# Altium footprint library Misc.SMD.PcbLib: 88 footprints (part 2 of 6)
Each footprint in its own frame and in the unit in brackets; x right, y up, seen from the top. Pads: shape width x height; smd on the part's side, far side on the other; paste and mask are expansions set on the pad; w line width, h text height; cw(c..) or ccw(c..) is an arc to the next point about the centre after c.
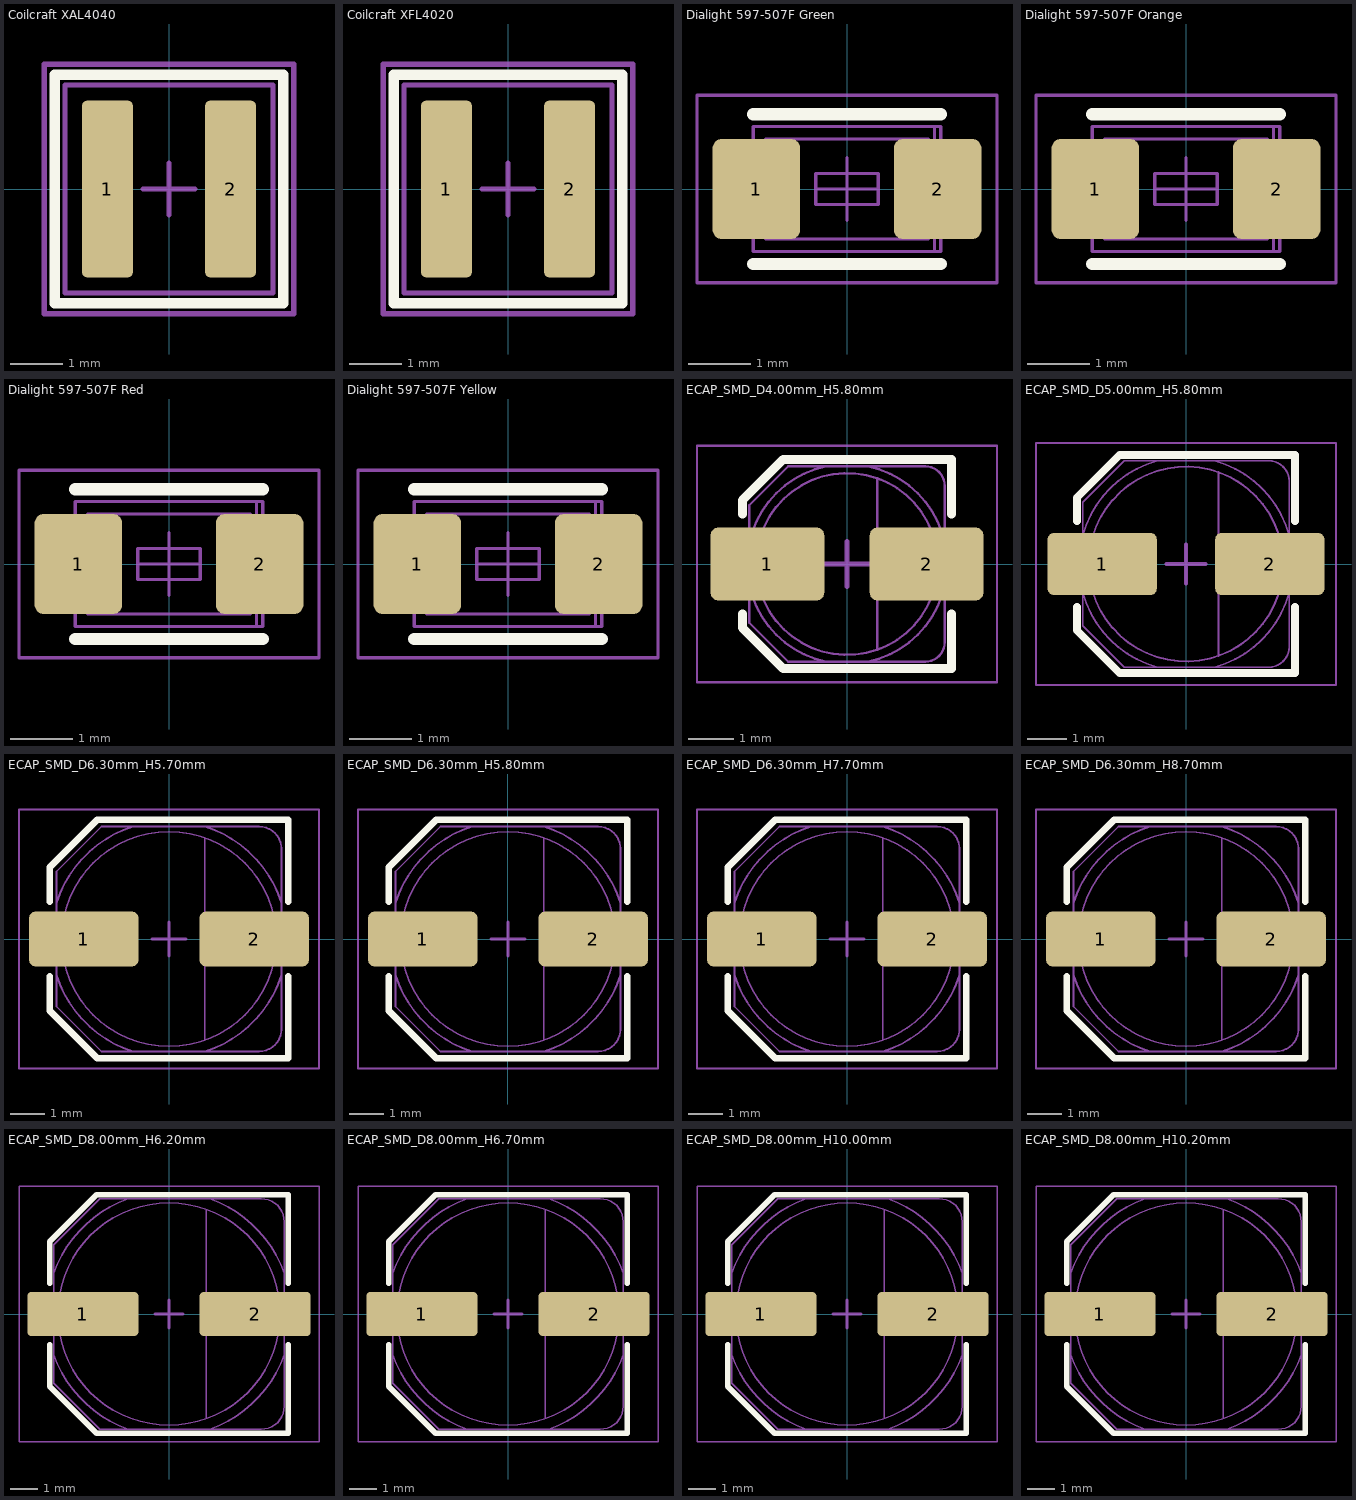
[diagram p1: the footprints below, top view; thin cyan lines are the x and y axes]

## Coilcraft XAL4040 [mm]
pads (2):
  rrect20% 0.98x3.4 smd: 1(-1.185,0) 2(1.185,0)
Top Overlay:
  lines w0.2: -2.2,-2.2 -2.2,2.2 2.2,2.2 2.2,-2.2 -2.2,-2.2
Mechanical 1:
  lines w0.1: -2,-2 -2,2 2,2 2,-2 -2,-2
Mechanical 15:
  lines w0.1: -0.5,0 0.5,0 ; 0,-0.5 0,0.5 ; -2.4,-2.4 -2.4,2.4 2.4,2.4 2.4,-2.4 -2.4,-2.4
3D body "L_Coilcraft_XAL4040.STEP": height 4.1, standoff 0, extent -2,-2 2,2

## Coilcraft XFL4020 [mm]
pads (2):
  rrect20% 0.98x3.4 smd: 1(-1.185,0) 2(1.185,0)
Top Overlay:
  lines w0.2: -2.2,-2.2 -2.2,2.2 2.2,2.2 2.2,-2.2 -2.2,-2.2
Mechanical 1:
  lines w0.1: -2,-2 -2,2 2,2 2,-2 -2,-2
Mechanical 15:
  lines w0.1: -0.5,0 0.5,0 ; 0,-0.5 0,0.5 ; -2.4,-2.4 -2.4,2.4 2.4,2.4 2.4,-2.4 -2.4,-2.4
3D body "L_Coilcraft_XFL4020.STEP": height 2.1, standoff 0, extent -2,-2 2,2

## Dialight 597-507F Green [mm] "Dialight 597-507F Series LED, 3.00x2.00mm"
height 1.3
pads (2):
  rrect20% 1.4x1.6 smd: 1(-1.45,0) 2(1.45,0)
Top Overlay:
  lines w0.2: -1.5,-1.2 1.5,-1.2 ; -1.5,1.2 1.5,1.2
Mechanical 1:
  lines w0.05: 1.4,-1 1.4,1 ; -1.5,-1 1.5,-1 1.5,1 -1.5,1 -1.5,-1 ; -1.3,-0.8 -1.3,0.8 1.3,0.8 1.3,-0.8 -1.3,-0.8 ; -0.5,-0.25 0.5,-0.25 0.5,0.25 -0.5,0.25 -0.5,-0.25
Mechanical 15:
  lines w0.05: -0.5,0 0.5,0 ; 0,-0.5 0,0.5 ; -2.4,-1.5 -2.4,1.5 2.4,1.5 2.4,-1.5 -2.4,-1.5
3D body "Dialight_597-507F_Green.STEP": height 1.3, standoff 0, extent -1.5,-1 1.5,1

## Dialight 597-507F Orange [mm] "Dialight 597-507F Series LED, 3.00x2.00mm"
height 1.3
pads (2):
  rrect20% 1.4x1.6 smd: 1(-1.45,0) 2(1.45,0)
Top Overlay:
  lines w0.2: -1.5,-1.2 1.5,-1.2 ; -1.5,1.2 1.5,1.2
Mechanical 1:
  lines w0.05: 1.4,-1 1.4,1 ; -1.5,-1 1.5,-1 1.5,1 -1.5,1 -1.5,-1 ; -1.3,-0.8 -1.3,0.8 1.3,0.8 1.3,-0.8 -1.3,-0.8 ; -0.5,-0.25 0.5,-0.25 0.5,0.25 -0.5,0.25 -0.5,-0.25
Mechanical 15:
  lines w0.05: -0.5,0 0.5,0 ; 0,-0.5 0,0.5 ; -2.4,-1.5 -2.4,1.5 2.4,1.5 2.4,-1.5 -2.4,-1.5
3D body "Dialight_597-507F_Orange.STEP": height 1.3, standoff 0, extent -1.5,-1 1.5,1

## Dialight 597-507F Red [mm] "Dialight 597-507F Series LED, 3.00x2.00mm"
height 1.3
pads (2):
  rrect20% 1.4x1.6 smd: 1(-1.45,0) 2(1.45,0)
Top Overlay:
  lines w0.2: -1.5,-1.2 1.5,-1.2 ; -1.5,1.2 1.5,1.2
Mechanical 1:
  lines w0.05: 1.4,-1 1.4,1 ; -1.5,-1 -1.5,1 1.5,1 1.5,-1 -1.5,-1 ; -1.3,-0.8 1.3,-0.8 1.3,0.8 -1.3,0.8 -1.3,-0.8 ; -0.5,-0.25 -0.5,0.25 0.5,0.25 0.5,-0.25 -0.5,-0.25
Mechanical 15:
  lines w0.05: -0.5,0 0.5,0 ; 0,-0.5 0,0.5 ; -2.4,-1.5 2.4,-1.5 2.4,1.5 -2.4,1.5 -2.4,-1.5
3D body "Dialight_597-507F_Red.STEP": height 1.3, standoff 0, extent -1.5,-1 1.5,1

## Dialight 597-507F Yellow [mm] "Dialight 597-507F Series LED, 3.00x2.00mm"
height 1.3
pads (2):
  rrect20% 1.4x1.6 smd: 1(-1.45,0) 2(1.45,0)
Top Overlay:
  lines w0.2: -1.5,-1.2 1.5,-1.2 ; -1.5,1.2 1.5,1.2
Mechanical 1:
  lines w0.05: 1.4,-1 1.4,1 ; -1.5,-1 -1.5,1 1.5,1 1.5,-1 -1.5,-1 ; -1.3,-0.8 1.3,-0.8 1.3,0.8 -1.3,0.8 -1.3,-0.8 ; -0.5,-0.25 -0.5,0.25 0.5,0.25 0.5,-0.25 -0.5,-0.25
Mechanical 15:
  lines w0.05: -0.5,0 0.5,0 ; 0,-0.5 0,0.5 ; -2.4,-1.5 2.4,-1.5 2.4,1.5 -2.4,1.5 -2.4,-1.5
3D body "Dialight_597-507F_Yellow.STEP": height 1.3, standoff 0, extent -1.5,-1 1.5,1

## ECAP_SMD_D4.00mm_H5.80mm [mm] "SMD Electrolytic Capacitor, 4.00mm Diameter, 5.80mm Height"
height 5.8
pads (2):
  rrect20% 2.5x1.6 smd: 1(-1.75,0) 2(1.75,0)
Top Overlay:
  lines w0.2: -2.3,-1.1 -2.3,-1.4 -1.4,-2.3 2.3,-2.3 2.3,-1.1 ; -2.3,1.1 -2.3,1.4 -1.4,2.3 2.3,2.3 2.3,1.1
Mechanical 1:
  circle w0.05: c0,0 r2
  lines w0.05: -2.15,-0.466 ccw(c0,0) -0.466,-2.15 ; -2.15,-0.325 -2.3,-0.325 -2.3,0.325 -2.15,0.325 ; -2.15,0.466 cw(c0,0) -0.466,2.15 ; 0.466,-2.15 ccw(c0,0) 2.15,-0.466 ; 0.466,2.15 cw(c0,0) 2.15,0.466 ; 0.667,-1.886 0.667,-1.672 0.667,1.672 0.667,1.886 ; 2.15,-0.325 2.3,-0.325 2.3,0.325 2.15,0.325 ; -2.15,-1.29 -1.29,-2.15 1.72,-2.15 ccw(c1.72,-1.72) 2.15,-1.72 2.15,1.72 ccw(c1.72,1.72) 1.72,2.15 -1.29,2.15 -2.15,1.29 -2.15,-1.29
Mechanical 15:
  lines w0.05: -3.3,-2.6 -3.3,2.6 3.3,2.6 3.3,-2.6 -3.3,-2.6
  lines w0.1: -0.5,0 0.5,0 ; 0,-0.5 0,0.5
3D body "CP_SMD_Radial_D4.00mm_H5.80mm.STEP": height 5.8, standoff 0, extent -2.3,-2.15 2.3,2.15

## ECAP_SMD_D5.00mm_H5.80mm [mm] "SMD Electrolytic Capacitor, 5.00mm Diameter, 5.80mm Height"
height 5.8
pads (2):
  rrect20% 2.8x1.6 smd: 1(-2.15,0) 2(2.15,0)
Top Overlay:
  lines w0.2: -2.8,-1.1 -2.8,-1.7 -1.7,-2.8 2.8,-2.8 2.8,-1.1 ; -2.8,1.1 -2.8,1.7 -1.7,2.8 2.8,2.8 2.8,1.1
Mechanical 1:
  circle w0.05: c0,0 r2.5
  lines w0.05: -2.65,-0.735 ccw(c0,0) -0.735,-2.65 ; -2.65,-0.325 -2.95,-0.325 -2.95,0.325 -2.65,0.325 ; -2.65,0.735 cw(c0,0) -0.735,2.65 ; 0.735,-2.65 ccw(c0,0) 2.65,-0.735 ; 0.735,2.65 cw(c0,0) 2.65,0.735 ; 0.833,-2.357 0.833,-2.09 0.833,2.09 0.833,2.357 ; 2.65,-0.325 2.95,-0.325 2.95,0.325 2.65,0.325 ; -2.65,-1.59 -2.65,1.59 -1.59,2.65 2.12,2.65 cw(c2.12,2.12) 2.65,2.12 2.65,-2.12 cw(c2.12,-2.12) 2.12,-2.65 -1.59,-2.65 -2.65,-1.59
Mechanical 15:
  lines w0.05: -3.85,-3.1 -3.85,3.1 3.85,3.1 3.85,-3.1 -3.85,-3.1
  lines w0.1: -0.5,0 0.5,0 ; 0,-0.5 0,0.5
3D body "CP_SMD_Radial_D5.00mm_H5.80mm.STEP": height 5.8, standoff 0, extent -2.95,-2.65 2.95,2.65

## ECAP_SMD_D6.30mm_H5.70mm [mm] "SMD Electrolytic Capacitor, 6.30mm Diameter, 5.80mm Height"
height 5.7
pads (2):
  rrect20% 3.2x1.6 smd: 1(-2.5,0) 2(2.5,0)
Top Overlay:
  lines w0.2: -3.5,-1.1 -3.5,-2.1 -2.1,-3.5 3.5,-3.5 3.5,-1.1 ; -3.5,1.1 -3.5,2.1 -2.1,3.5 3.5,3.5 3.5,1.1
Mechanical 1:
  circle w0.05: c0,0 r3.15
  lines w0.05: -3.3,-1.057 ccw(c0,0) -1.057,-3.3 ; -3.3,-0.325 -3.5,-0.325 -3.5,0.325 -3.3,0.325 ; -3.3,1.057 cw(c0,0) -1.057,3.3 ; 1.05,-2.97 1.05,-2.633 1.05,2.633 1.05,2.97 ; 1.057,-3.3 ccw(c0,0) 3.3,-1.057 ; 1.057,3.3 cw(c0,0) 3.3,1.057 ; 3.3,-0.325 3.5,-0.325 3.5,0.325 3.3,0.325 ; -3.3,-1.98 -1.98,-3.3 2.64,-3.3 ccw(c2.64,-2.64) 3.3,-2.64 3.3,2.64 ccw(c2.64,2.64) 2.64,3.3 -1.98,3.3 -3.3,1.98 -3.3,-1.98
Mechanical 15:
  lines w0.05: -4.4,-3.8 4.4,-3.8 4.4,3.8 -4.4,3.8 -4.4,-3.8
  lines w0.1: -0.5,0 0.5,0 ; 0,-0.5 0,0.5
3D body "CP_SMD_Radial_D6.30mm_H5.70mm.STEP": height 5.7, standoff 0, extent -3.5,-3.3 3.5,3.3

## ECAP_SMD_D6.30mm_H5.80mm [mm] "SMD Electrolytic Capacitor, 6.30mm Diameter, 5.80mm Height"
height 5.8
pads (2):
  rrect20% 3.2x1.6 smd: 1(-2.5,0) 2(2.5,0)
Top Overlay:
  lines w0.2: -3.5,-1.1 -3.5,-2.1 -2.1,-3.5 3.5,-3.5 3.5,-1.1 ; -3.5,1.1 -3.5,2.1 -2.1,3.5 3.5,3.5 3.5,1.1
Mechanical 1:
  circle w0.05: c0,0 r3.15
  lines w0.05: -3.3,-1.056 ccw(c0,0) -1.056,-3.3 ; -3.3,-0.325 -3.5,-0.325 -3.5,0.325 -3.3,0.325 ; -3.3,1.057 cw(c0,0) -1.056,3.3 ; 1.05,-2.97 1.05,-2.633 1.05,2.633 1.05,2.97 ; 1.057,-3.3 ccw(c0,0) 3.3,-1.056 ; 1.057,3.3 cw(c0,0) 3.3,1.057 ; 3.3,-0.325 3.5,-0.325 3.5,0.325 3.3,0.325 ; -3.3,-1.98 -3.3,1.98 -1.98,3.3 2.64,3.3 cw(c2.64,2.64) 3.3,2.64 3.3,-2.64 cw(c2.64,-2.64) 2.64,-3.3 -1.98,-3.3 -3.3,-1.98
Mechanical 15:
  lines w0.05: -4.4,-3.8 -4.4,3.8 4.4,3.8 4.4,-3.8 -4.4,-3.8
  lines w0.1: -0.5,0 0.5,0 ; 0,-0.5 0,0.5
3D body "CP_SMD_Radial_D6.30mm_H5.80mm.STEP": height 5.8, standoff 0, extent -3.5,-3.3 3.5,3.3

## ECAP_SMD_D6.30mm_H7.70mm [mm] "SMD Electrolytic Capacitor, 6.30mm Diameter, 7.70mm Height"
height 7.7
pads (2):
  rrect20% 3.2x1.6 smd: 1(-2.5,0) 2(2.5,0)
Top Overlay:
  lines w0.2: -3.5,-1.1 -3.5,-2.1 -2.1,-3.5 3.5,-3.5 3.5,-1.1 ; -3.5,1.1 -3.5,2.1 -2.1,3.5 3.5,3.5 3.5,1.1
Mechanical 1:
  circle w0.05: c0,0 r3.15
  lines w0.05: -3.3,-1.057 ccw(c0,0) -1.057,-3.3 ; -3.3,-0.325 -3.5,-0.325 -3.5,0.325 -3.3,0.325 ; -3.3,1.057 cw(c0,0) -1.057,3.3 ; 1.05,-2.97 1.05,-2.633 1.05,2.633 1.05,2.97 ; 1.057,-3.3 ccw(c0,0) 3.3,-1.057 ; 1.057,3.3 cw(c0,0) 3.3,1.057 ; 3.3,-0.325 3.5,-0.325 3.5,0.325 3.3,0.325 ; -3.3,-1.98 -1.98,-3.3 2.64,-3.3 ccw(c2.64,-2.64) 3.3,-2.64 3.3,2.64 ccw(c2.64,2.64) 2.64,3.3 -1.98,3.3 -3.3,1.98 -3.3,-1.98
Mechanical 15:
  lines w0.05: -4.4,-3.8 4.4,-3.8 4.4,3.8 -4.4,3.8 -4.4,-3.8
  lines w0.1: -0.5,0 0.5,0 ; 0,-0.5 0,0.5
3D body "CP_SMD_Radial_D6.30mm_H7.70mm.STEP": height 7.7, standoff 0, extent -3.5,-3.3 3.5,3.3

## ECAP_SMD_D6.30mm_H8.70mm [mm] "SMD Electrolytic Capacitor, 6.30mm Diameter, 8.70mm Height"
height 8.7
pads (2):
  rrect20% 3.2x1.6 smd: 1(-2.5,0) 2(2.5,0)
Top Overlay:
  lines w0.2: -3.5,-1.1 -3.5,-2.1 -2.1,-3.5 3.5,-3.5 3.5,-1.1 ; -3.5,1.1 -3.5,2.1 -2.1,3.5 3.5,3.5 3.5,1.1
Mechanical 1:
  circle w0.05: c0,0 r3.15
  lines w0.05: -3.3,-1.057 ccw(c0,0) -1.057,-3.3 ; -3.3,-0.325 -3.5,-0.325 -3.5,0.325 -3.3,0.325 ; -3.3,1.057 cw(c0,0) -1.057,3.3 ; 1.05,-2.97 1.05,-2.633 1.05,2.633 1.05,2.97 ; 1.057,-3.3 ccw(c0,0) 3.3,-1.057 ; 1.057,3.3 cw(c0,0) 3.3,1.057 ; 3.3,-0.325 3.5,-0.325 3.5,0.325 3.3,0.325 ; -3.3,-1.98 -1.98,-3.3 2.64,-3.3 ccw(c2.64,-2.64) 3.3,-2.64 3.3,2.64 ccw(c2.64,2.64) 2.64,3.3 -1.98,3.3 -3.3,1.98 -3.3,-1.98
Mechanical 15:
  lines w0.05: -4.4,-3.8 4.4,-3.8 4.4,3.8 -4.4,3.8 -4.4,-3.8
  lines w0.1: -0.5,0 0.5,0 ; 0,-0.5 0,0.5
3D body "CP_SMD_Radial_D6.30mm_H8.70mm.STEP": height 8.7, standoff 0, extent -3.5,-3.3 3.5,3.3

## ECAP_SMD_D8.00mm_H6.20mm [mm] "SMD Electrolytic Capacitor, 8.00mm Diameter, 6.20mm Height"
height 6.2
pads (2):
  rrect20% 4x1.6 smd: 1(-3.1,0) 2(3.1,0)
Top Overlay:
  lines w0.2: -4.3,-1.1 -4.3,-2.6 -2.6,-4.3 4.3,-4.3 4.3,-1.1 ; -4.3,1.1 -4.3,2.6 -2.6,4.3 4.3,4.3 4.3,1.1
Mechanical 1:
  circle w0.05: c0,0 r4
  lines w0.05: -4.15,-1.462 ccw(c0,0) -1.462,-4.15 ; -4.15,-0.475 -4.45,-0.475 -4.45,0.475 -4.15,0.475 ; -4.15,1.462 cw(c0,0) -1.462,4.15 ; 1.333,-3.771 1.333,-3.344 1.333,3.344 1.333,3.771 ; 1.462,-4.15 ccw(c0,0) 4.15,-1.462 ; 1.462,4.15 cw(c0,0) 4.15,1.462 ; 4.15,-0.475 4.45,-0.475 4.45,0.475 4.15,0.475 ; -4.15,-2.49 -4.15,2.49 -2.49,4.15 3.32,4.15 cw(c3.32,3.32) 4.15,3.32 4.15,-3.32 cw(c3.32,-3.32) 3.32,-4.15 -2.49,-4.15 -4.15,-2.49
Mechanical 15:
  lines w0.05: -5.4,-4.6 -5.4,4.6 5.4,4.6 5.4,-4.6 -5.4,-4.6
  lines w0.1: -0.5,0 0.5,0 ; 0,-0.5 0,0.5
3D body "CP_SMD_Radial_D8.00mm_H6.20mm.STEP": height 6.2, standoff 0, extent -4.45,-4.15 4.45,4.15

## ECAP_SMD_D8.00mm_H6.70mm [mm] "SMD Electrolytic Capacitor, 8.00mm Diameter, 6.70mm Height"
height 6.7
pads (2):
  rrect20% 4x1.6 smd: 1(-3.1,0) 2(3.1,0)
Top Overlay:
  lines w0.2: -4.3,-1.1 -4.3,-2.6 -2.6,-4.3 4.3,-4.3 4.3,-1.1 ; -4.3,1.1 -4.3,2.6 -2.6,4.3 4.3,4.3 4.3,1.1
Mechanical 1:
  circle w0.05: c0,0 r4
  lines w0.05: -4.15,-1.462 ccw(c0,0) -1.462,-4.15 ; -4.15,-0.475 -4.45,-0.475 -4.45,0.475 -4.15,0.475 ; -4.15,1.462 cw(c0,0) -1.462,4.15 ; 1.333,-3.771 1.333,-3.344 1.333,3.344 1.333,3.771 ; 1.462,-4.15 ccw(c0,0) 4.15,-1.462 ; 1.462,4.15 cw(c0,0) 4.15,1.462 ; 4.15,-0.475 4.45,-0.475 4.45,0.475 4.15,0.475 ; -4.15,-2.49 -4.15,2.49 -2.49,4.15 3.32,4.15 cw(c3.32,3.32) 4.15,3.32 4.15,-3.32 cw(c3.32,-3.32) 3.32,-4.15 -2.49,-4.15 -4.15,-2.49
Mechanical 15:
  lines w0.05: -5.4,-4.6 -5.4,4.6 5.4,4.6 5.4,-4.6 -5.4,-4.6
  lines w0.1: -0.5,0 0.5,0 ; 0,-0.5 0,0.5
3D body "CP_SMD_Radial_D8.00mm_H6.70mm.STEP": height 6.7, standoff 0, extent -4.45,-4.15 4.45,4.15

## ECAP_SMD_D8.00mm_H10.00mm [mm] "SMD Electrolytic Capacitor, 8.00mm Diameter, 10.00mm Height"
height 10
pads (2):
  rrect20% 4x1.6 smd: 1(-3.1,0) 2(3.1,0)
Top Overlay:
  lines w0.2: -4.3,-1.1 -4.3,-2.6 -2.6,-4.3 4.3,-4.3 4.3,-1.1 ; -4.3,1.1 -4.3,2.6 -2.6,4.3 4.3,4.3 4.3,1.1
Mechanical 1:
  circle w0.05: c0,0 r4
  lines w0.05: -4.15,-1.462 ccw(c0,0) -1.462,-4.15 ; -4.15,-0.475 -4.45,-0.475 -4.45,0.475 -4.15,0.475 ; -4.15,1.462 cw(c0,0) -1.462,4.15 ; 1.333,-3.771 1.333,-3.344 1.333,3.344 1.333,3.771 ; 1.462,-4.15 ccw(c0,0) 4.15,-1.462 ; 1.462,4.15 cw(c0,0) 4.15,1.462 ; 4.15,-0.475 4.45,-0.475 4.45,0.475 4.15,0.475 ; -4.15,-2.49 -4.15,2.49 -2.49,4.15 3.32,4.15 cw(c3.32,3.32) 4.15,3.32 4.15,-3.32 cw(c3.32,-3.32) 3.32,-4.15 -2.49,-4.15 -4.15,-2.49
Mechanical 15:
  lines w0.05: -5.4,-4.6 -5.4,4.6 5.4,4.6 5.4,-4.6 -5.4,-4.6
  lines w0.1: -0.5,0 0.5,0 ; 0,-0.5 0,0.5
3D body "CP_SMD_Radial_D8.00mm_H10.00mm.STEP": height 10, standoff 0, extent -4.45,-4.15 4.45,4.15

## ECAP_SMD_D8.00mm_H10.20mm [mm] "SMD Electrolytic Capacitor, 8.00mm Diameter, 10.20mm Height"
height 10.2
pads (2):
  rrect20% 4x1.6 smd: 1(-3.1,0) 2(3.1,0)
Top Overlay:
  lines w0.2: -4.3,-1.1 -4.3,-2.6 -2.6,-4.3 4.3,-4.3 4.3,-1.1 ; -4.3,1.1 -4.3,2.6 -2.6,4.3 4.3,4.3 4.3,1.1
Mechanical 1:
  circle w0.05: c0,0 r4
  lines w0.05: -4.15,-1.462 ccw(c0,0) -1.462,-4.15 ; -4.15,-0.475 -4.45,-0.475 -4.45,0.475 -4.15,0.475 ; -4.15,1.462 cw(c0,0) -1.462,4.15 ; 1.333,-3.771 1.333,-3.344 1.333,3.344 1.333,3.771 ; 1.462,-4.15 ccw(c0,0) 4.15,-1.462 ; 1.462,4.15 cw(c0,0) 4.15,1.462 ; 4.15,-0.475 4.45,-0.475 4.45,0.475 4.15,0.475 ; -4.15,-2.49 -2.49,-4.15 3.32,-4.15 ccw(c3.32,-3.32) 4.15,-3.32 4.15,3.32 ccw(c3.32,3.32) 3.32,4.15 -2.49,4.15 -4.15,2.49 -4.15,-2.49
Mechanical 15:
  lines w0.05: -5.4,-4.6 5.4,-4.6 5.4,4.6 -5.4,4.6 -5.4,-4.6
  lines w0.1: -0.5,0 0.5,0 ; 0,-0.5 0,0.5
3D body "CP_SMD_Radial_D8.00mm_H10.20mm.STEP": height 10.2, standoff 0, extent -4.45,-4.15 4.45,4.15